# Altium schematic symbol library PHOTODIODE.SchLib: 1 symbol
Pins are listed as number, name and electrical type; pins without a type are passive.

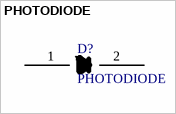
[diagram p0: symbol PHOTODIODE]

## PHOTODIODE
designator D?
Photodiode symbol
pins: 1 A, 2 K